# Altium footprint library SW-SMD_4P.PcbLib: 1 footprints
Each footprint in its own frame and in the unit in brackets; x right, y up, seen from the top. Pads: shape width x height; smd on the part's side, far side on the other; paste and mask are expansions set on the pad; w line width, h text height; cw(c..) or ccw(c..) is an arc to the next point about the centre after c.
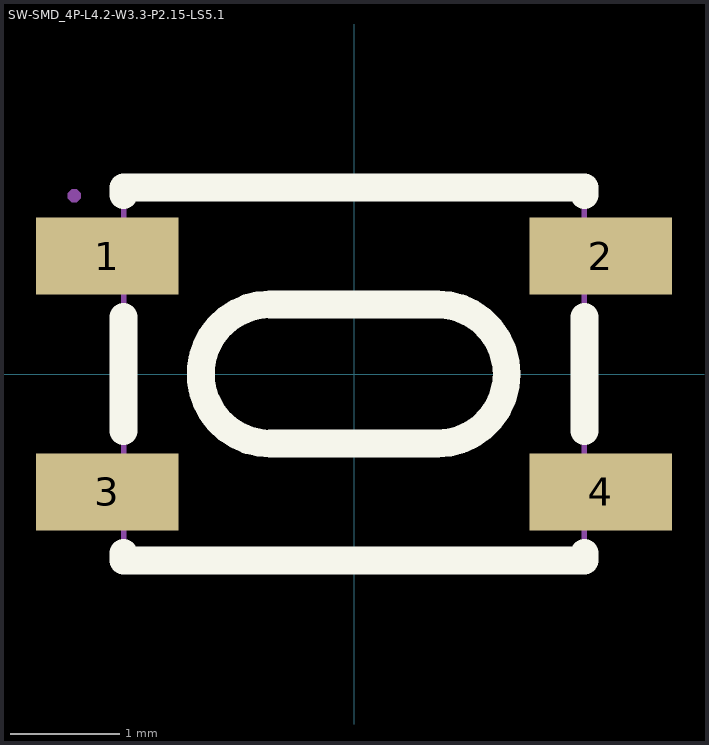
[diagram p0: the footprint, top view; thin cyan lines are the x and y axes]

## SW-SMD_4P-L4.2-W3.3-P2.15-LS5.1 [mm]
pads (4):
  rect 1.3x0.7 smd paste+0 mask+0.051: 1(-2.25,1.075) 2(2.25,1.075) 3(-2.25,-1.075) 4(2.25,-1.075)
Top Overlay:
  lines w0.254: -2.1,-1.631 -2.1,-1.7 2.1,-1.7 2.1,-1.631 ; -2.1,-0.519 -2.1,0.519 ; -2.1,1.631 -2.1,1.7 2.1,1.7 2.1,1.631 ; -0.763,0.636 ccw(c-0.763,0) -0.762,-0.635 0.762,-0.635 ; -0.762,0.635 0.762,0.635 cw(c0.757,0) 0.761,-0.634 ; 2.1,-0.519 2.1,0.519
Mechanical 15:
  region: -2.49,1.625 -2.491,1.649 -2.526,1.683 -2.574,1.683 -2.609,1.649 -2.61,1.625 -2.609,1.601 -2.574,1.567 -2.526,1.567 -2.491,1.601 -2.49,1.625
  region: 2.55,-0.8 2.55,-1.35 1.9,-1.35 1.9,-0.8
  region: -1.9,-0.8 -1.9,-1.35 -2.55,-1.35 -2.55,-0.8
  region: 2.55,1.35 2.55,0.8 1.9,0.8 1.9,1.35
  region: -1.9,1.35 -1.9,0.8 -2.55,0.8 -2.55,1.35
  lines w0.051: -2.1,-1.625 -2.1,1.625 2.1,1.625 2.1,-1.625 -2.1,-1.625
3D body "Button_6x6x5_4pin.STEP": height 5.3, standoff 0, extent -3.254,-4.446 2.746,4.954